# EAGLE library part 662006231722 (library Wuerth_Elektronik_eiCan_08_Micro_Power_Connectors)
WR-MPC3 3.00mm Male Dual Row SMT Angled Header SMT Fitting Nail Clip, 6 Pins
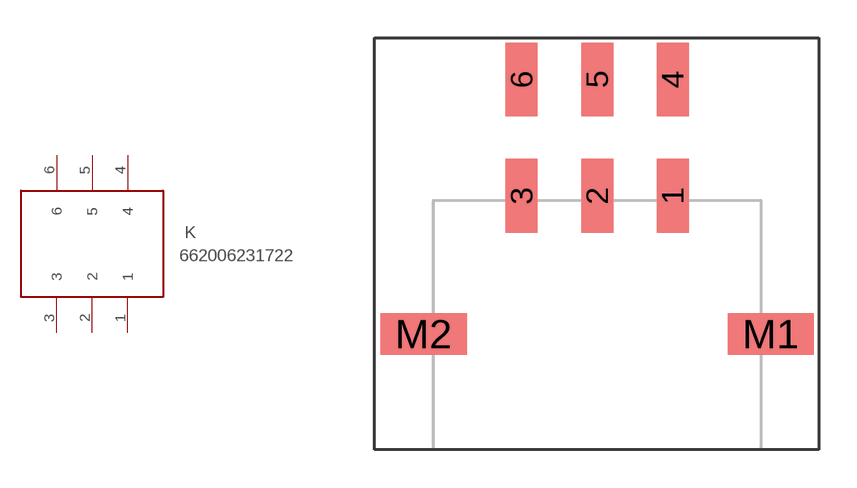
[diagram p60: symbol with the pads of 662006231722; footprint 662006231722]

Designator prefix K

## 662006231722  [662006231722]
1  1
2  2
3  3
4  4
5  5
6  6

## Footprint 662006231722 (pad centres in mm)
WR-MPC3 3.00mm Male Dual Row SMT Angled Header SMT Fitting Nail Clip, 6 Pins
smd 1.27 x 2.92: 1 0,-2.31; 2 -3,-2.31; 3 -6,-2.31; 4 0,2.31; 5 -3,2.31; 6 -6,2.31
smd 3.43 x 1.65: M1 3.895,-7.79; M2 -9.895,-7.79